# Altium footprint library PcbLib1.PcbLib: 74 footprints (part 1 of 5)
Each footprint in its own frame and in the unit in brackets; x right, y up, seen from the top. Pads: shape width x height; smd on the part's side, far side on the other; paste and mask are expansions set on the pad; w line width, h text height; cw(c..) or ccw(c..) is an arc to the next point about the centre after c.
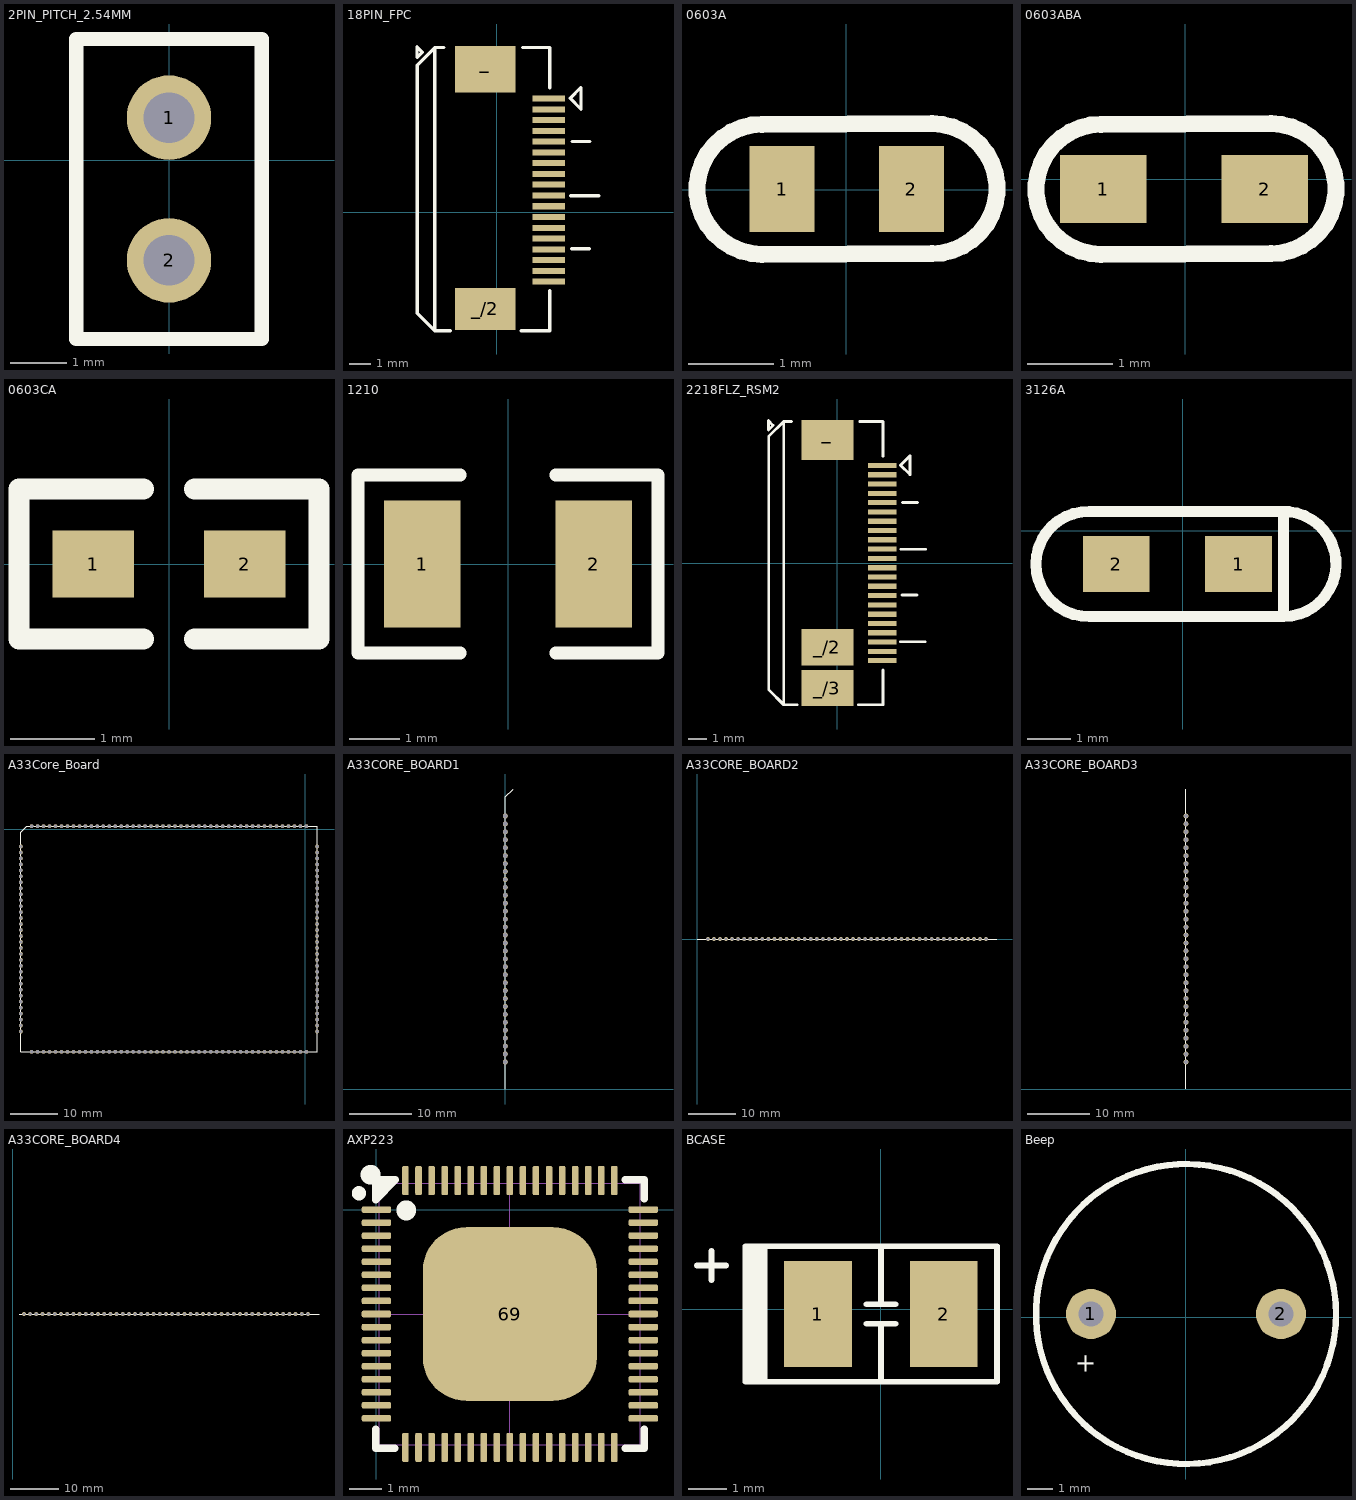
[diagram p0: the footprints below, top view; thin cyan lines are the x and y axes]

## 2PIN_PITCH_2.54MM [mm]
pads (2):
  round 1.5 hole 0.9: 1(0,0.762) 2(0,-1.778)
Top Overlay:
  lines w0.254: -1.651,-3.175 -1.651,2.159 1.651,2.159 1.651,-3.175 -1.651,-3.175

## 18PIN_FPC [mil]
pads (20):
  rect 60x11 smd: 1(95,207.49) 2(95,187.81) 3(95,168.12) 4(95,148.44) 5(95,128.75) 6(95,109.07) 7(95,89.38) 8(95,69.7) 9(95,50.01) 10(95,30.33) 11(95,10.64) 12(95,-9.04) 13(95,-28.73) 14(95,-48.41) 15(95,-68.1) 16(95,-87.78) 17(95,-107.47) 18(95,-127.15)
  rect 110x85 smd: _(-21,261.5)
  rect 110x77 smd: _/2(-21,-177.14)
Top Overlay:
  lines w6: -97,300.86 -113.4,300.86 ; -85,-217 -113.4,-217 ; 44.64,-217 96.6,-217 96.6,-143.32 ; 47.36,300.86 96.6,300.86 96.6,227.18 ; 135,30 187,30 ; 137,-67 169,-67 ; 138,129 170,129 ; -113.4,-217 -145.4,-185 -145.4,268.86 -113.4,300.86 ; -113.4,-217 -113.4,300.86 ; -146,282.5 -136,292.5 -146,302.5 -146,282.5 ; 134,208 154,228 154,188 134,208
Mechanical 18:
  text "J1" at -149,363.5 h25

## 0603A [mil]
pads (2):
  rect 30x40 smd: 1(-29.69,0.44) 2(30.31,0.44)
Top Overlay:
  lines w7.87: -38.94,-29.84 cw(c-38.94,0.3) -38.94,30.44 39.8,30.72 cw(c39.8,0.58) 39.8,-29.56 -38.94,-29.84

## 0603ABA [mm]
pads (2):
  rect 1.016x0.8 smd: 1(-0.962,-0.116) 2(0.938,-0.116)
Top Overlay:
  lines w0.2: -0.989,-0.885 cw(c-0.989,-0.119) -0.989,0.646 1.011,0.653 cw(c1.011,-0.112) 1.011,-0.878 -0.989,-0.885

## 0603CA [mm]
pads (2):
  rect 0.965x0.8 smd: 1(-0.9,0) 2(0.9,0)
Top Overlay:
  lines w0.254: -0.305,-0.889 -1.778,-0.889 -1.778,0.889 -0.305,0.889 ; 0.305,-0.889 1.778,-0.889 1.778,0.889 0.305,0.889

## 1210 [mil]
pads (2):
  rect 60x100 smd: 1(-67.5,0) 2(67.5,0)
Top Overlay:
  lines w10: -37.5,-70 -118,-70 -118,70 -37.5,70 ; 37.5,-70 118,-70 118,70 37.5,70

## 2218FLZ_RSM2 [mil]
pads (25):
  rect 60x11 smd: 1(95,207.49) 2(95,187.81) 3(95,168.12) 4(95,148.44) 5(95,128.75) 6(95,109.07) 7(95,89.38) 8(95,69.7) 9(95,50.01) 10(95,30.33) 11(95,10.64) 12(95,-9.04) 13(95,-28.73) 14(95,-48.41) 15(95,-68.1) 16(95,-87.78) 17(95,-107.47) 18(95,-127.15) 19(95,-146.84) 20(95,-166.52) 21(95,-186.21) 22(95,-205.89)
  rect 110x85 smd: _(-21,261.5)
  rect 110x77 smd: _/2(-21,-177.14) _/3(-21,-263.88)
Top Overlay:
  lines w6: -97,300.86 -113.4,300.86 ; -85,-299.14 -113.4,-299.14 ; 44.64,-299.14 96.6,-299.14 96.6,-225.46 ; 47.36,300.86 96.6,300.86 96.6,227.18 ; 134,-166 186,-166 ; 135,30 187,30 ; 137,-67 169,-67 ; 138,129 170,129 ; -113.4,-299.14 -145.4,-267.14 -145.4,268.86 -113.4,300.86 ; -113.4,-299.14 -113.4,300.86 ; -146,282.5 -136,292.5 -146,302.5 -146,282.5 ; 134,208 154,228 154,188 134,208
Mechanical 18:
  text "J1" at -149,363.5 h25

## 3126A [mil]
pads (2):
  rect 60x50 smd: 1(50.16,-29.77) 2(-59.84,-29.77)
Top Overlay:
  lines w10: -83.7,-77.02 cw(c-84.69,-29.77) -83.61,17.47 ; -83.66,-77.01 90.51,-77.02 ; -83.66,17.47 89.53,17.47 90.51,15.51 90.51,-77.02 ; 88.29,17.42 cw(c90.51,-29.77) 90.51,-77.02

## A33Core_Board [mm]
pads (158):
  round 0.8 / inner round 0.8 / far side rect 1.9x0.8 hole 0.7: 1(-60.456,-3.696) 2(-60.456,-4.966) 3(-60.456,-6.236) 4(-60.456,-7.506) 5(-60.456,-8.776) 6(-60.456,-10.046) 7(-60.456,-11.316) 8(-60.456,-12.586) 9(-60.456,-13.856) 10(-60.456,-15.126) 11(-60.456,-16.396) 12(-60.456,-17.666) 13(-60.456,-18.936) 14(-60.456,-20.206) 15(-60.456,-21.476) 16(-60.456,-22.746) 17(-60.456,-24.016) 18(-60.456,-25.286) 19(-60.456,-26.556) 20(-60.456,-27.826) 21(-60.456,-29.096) 22(-60.456,-30.366) 23(-60.456,-31.636) 24(-60.456,-32.906) 25(-60.456,-34.176) 26(-60.456,-35.446) 27(-60.456,-36.716) 28(-60.456,-37.986) 29(-60.456,-39.256) 30(-60.456,-40.526) 31(-60.456,-41.796) 32(-60.456,-43.066) 80(2.544,-43.066) 81(2.544,-41.796) 82(2.544,-40.526) 83(2.544,-39.256) 84(2.544,-37.986) 85(2.544,-36.716) 86(2.544,-35.446) 87(2.544,-34.176) 88(2.544,-32.906) 89(2.544,-31.636) 90(2.544,-30.366) 91(2.544,-29.096) 92(2.544,-27.826) 93(2.544,-26.556) 94(2.544,-25.286) 95(2.544,-24.016) 96(2.544,-22.746) 97(2.544,-21.476) 98(2.544,-20.206) 99(2.544,-18.936) 100(2.544,-17.666) 101(2.544,-16.396) 102(2.544,-15.126) 103(2.544,-13.856) 104(2.544,-12.586) 105(2.544,-11.316) 106(2.544,-10.046) 107(2.544,-8.776) 108(2.544,-7.506) 109(2.544,-6.236) 110(2.544,-4.966) 111(2.544,-3.696)
  round 0.8 / inner round 0.8 / far side rect 0.8x1.9 hole 0.7: 33(-58.166,-47.381) 34(-56.896,-47.381) 35(-55.626,-47.381) 36(-54.356,-47.381) 37(-53.086,-47.381) 38(-51.816,-47.381) 39(-50.546,-47.381) 40(-49.276,-47.381) 41(-48.006,-47.381) 42(-46.736,-47.381) 43(-45.466,-47.381) 44(-44.196,-47.381) 45(-42.926,-47.381) 46(-41.656,-47.381) 47(-40.386,-47.381) 48(-39.116,-47.381) 49(-37.846,-47.381) 50(-36.576,-47.381) 51(-35.306,-47.381) 52(-34.036,-47.381) 53(-32.766,-47.381) 54(-31.496,-47.381) 55(-30.226,-47.381) 56(-28.956,-47.381) 57(-27.686,-47.381) 58(-26.416,-47.381) 59(-25.146,-47.381) 60(-23.876,-47.381) 61(-22.606,-47.381) 62(-21.336,-47.381) 63(-20.066,-47.381) 64(-18.796,-47.381) 65(-17.526,-47.381) 66(-16.256,-47.381) 67(-14.986,-47.381) 68(-13.716,-47.381) 69(-12.446,-47.381) 70(-11.176,-47.381) 71(-9.906,-47.381) 72(-8.636,-47.381) 73(-7.366,-47.381) 74(-6.096,-47.381) 75(-4.826,-47.381) 76(-3.556,-47.381) 77(-2.286,-47.381) 78(-1.016,-47.381) 79(0.254,-47.381) 112(0.254,0.619) 113(-1.016,0.619) 114(-2.286,0.619) 115(-3.556,0.619) 116(-4.826,0.619) 117(-6.096,0.619) 118(-7.366,0.619) 119(-8.636,0.619) 120(-9.906,0.619) 121(-11.176,0.619) 122(-12.446,0.619) 123(-13.716,0.619) 124(-14.986,0.619) 125(-16.256,0.619) 126(-17.526,0.619) 127(-18.796,0.619) 128(-20.066,0.619) 129(-21.336,0.619) 130(-22.606,0.619) 131(-23.876,0.619) 132(-25.146,0.619) 133(-26.416,0.619) 134(-27.686,0.619) 135(-28.956,0.619) 136(-30.226,0.619) 137(-31.496,0.619) 138(-32.766,0.619) 139(-34.036,0.619) 140(-35.306,0.619) 141(-36.576,0.619) 142(-37.846,0.619) 143(-39.116,0.619) 144(-40.386,0.619) 145(-41.656,0.619) 146(-42.926,0.619) 147(-44.196,0.619) 148(-45.466,0.619) 149(-46.736,0.619) 150(-48.006,0.619) 151(-49.276,0.619) 152(-50.546,0.619) 153(-51.816,0.619) 154(-53.086,0.619) 155(-54.356,0.619) 156(-55.626,0.619) 157(-56.896,0.619) 158(-58.166,0.619)
Top Overlay:
  lines w0.127: -60.456,-0.637 -60.456,-47.385 -60.452,-47.381 2.54,-47.381 2.54,0.619 -58.948,0.619 -59.192,0.619 -60.447,-0.637

## A33CORE_BOARD1 [mm]
pads (32):
  round 0.8 / inner round 0.8 / far side rect 1.9x0.8 hole 0.7: 1(0,43.689) 2(0,42.419) 3(0,41.149) 4(0,39.879) 5(0,38.609) 6(0,37.339) 7(0,36.069) 8(0,34.799) 9(0,33.529) 10(0,32.259) 11(0,30.989) 12(0,29.719) 13(0,28.449) 14(0,27.179) 15(0,25.909) 16(0,24.639) 17(0,23.369) 18(0,22.099) 19(0,20.829) 20(0,19.559) 21(0,18.289) 22(0,17.019) 23(0,15.749) 24(0,14.479) 25(0,13.209) 26(0,11.939) 27(0,10.669) 28(0,9.399) 29(0,8.129) 30(0,6.859) 31(0,5.589) 32(0,4.319)
Top Overlay:
  lines w0.127: 0,46.748 0,0 0.004,0.004 ; 0.009,46.748 1.264,48.004

## A33CORE_BOARD2 [mm]
pads (47):
  round 0.8 / inner round 0.8 / far side rect 0.8x1.9 hole 0.7: 33(2.29,0.004) 34(3.56,0.004) 35(4.83,0.004) 36(6.1,0.004) 37(7.37,0.004) 38(8.64,0.004) 39(9.91,0.004) 40(11.18,0.004) 41(12.45,0.004) 42(13.72,0.004) 43(14.99,0.004) 44(16.26,0.004) 45(17.53,0.004) 46(18.8,0.004) 47(20.07,0.004) 48(21.34,0.004) 49(22.61,0.004) 50(23.88,0.004) 51(25.15,0.004) 52(26.42,0.004) 53(27.69,0.004) 54(28.96,0.004) 55(30.23,0.004) 56(31.5,0.004) 57(32.77,0.004) 58(34.04,0.004) 59(35.31,0.004) 60(36.58,0.004) 61(37.85,0.004) 62(39.12,0.004) 63(40.39,0.004) 64(41.66,0.004) 65(42.93,0.004) 66(44.2,0.004) 67(45.47,0.004) 68(46.74,0.004) 69(48.01,0.004) 70(49.28,0.004) 71(50.55,0.004) 72(51.82,0.004) 73(53.09,0.004) 74(54.36,0.004) 75(55.63,0.004) 76(56.9,0.004) 77(58.17,0.004) 78(59.44,0.004) 79(60.71,0.004)
Top Overlay:
  lines w0.127: 0,0 0.004,0.004 62.996,0.004

## A33CORE_BOARD3 [mm]
pads (32):
  round 0.8 / inner round 0.8 / far side rect 1.9x0.8 hole 0.7: 80(63,4.319) 81(63,5.589) 82(63,6.859) 83(63,8.129) 84(63,9.399) 85(63,10.669) 86(63,11.939) 87(63,13.209) 88(63,14.479) 89(63,15.749) 90(63,17.019) 91(63,18.289) 92(63,19.559) 93(63,20.829) 94(63,22.099) 95(63,23.369) 96(63,24.639) 97(63,25.909) 98(63,27.179) 99(63,28.449) 100(63,29.719) 101(63,30.989) 102(63,32.259) 103(63,33.529) 104(63,34.799) 105(63,36.069) 106(63,37.339) 107(63,38.609) 108(63,39.879) 109(63,41.149) 110(63,42.419) 111(63,43.689)
Top Overlay:
  lines w0.127: 62.996,0.004 62.996,48.004

## A33CORE_BOARD4 [mm]
pads (47):
  round 0.8 / inner round 0.8 / far side rect 0.8x1.9 hole 0.7: 112(60.71,48.004) 113(59.44,48.004) 114(58.17,48.004) 115(56.9,48.004) 116(55.63,48.004) 117(54.36,48.004) 118(53.09,48.004) 119(51.82,48.004) 120(50.55,48.004) 121(49.28,48.004) 122(48.01,48.004) 123(46.74,48.004) 124(45.47,48.004) 125(44.2,48.004) 126(42.93,48.004) 127(41.66,48.004) 128(40.39,48.004) 129(39.12,48.004) 130(37.85,48.004) 131(36.58,48.004) 132(35.31,48.004) 133(34.04,48.004) 134(32.77,48.004) 135(31.5,48.004) 136(30.23,48.004) 137(28.96,48.004) 138(27.69,48.004) 139(26.42,48.004) 140(25.15,48.004) 141(23.88,48.004) 142(22.61,48.004) 143(21.34,48.004) 144(20.07,48.004) 145(18.8,48.004) 146(17.53,48.004) 147(16.26,48.004) 148(14.99,48.004) 149(13.72,48.004) 150(12.45,48.004) 151(11.18,48.004) 152(9.91,48.004) 153(8.64,48.004) 154(7.37,48.004) 155(6.1,48.004) 156(4.83,48.004) 157(3.56,48.004) 158(2.29,48.004)
Top Overlay:
  lines w0.127: 1.264,48.004 1.508,48.004 62.996,48.004

## AXP223 [mm]
pads (69):
  rrect50% 0.9x0.2 smd: 1(0,0) 2(0,-0.4) 3(0,-0.8) 4(0,-1.2) 5(0,-1.6) 6(0,-2) 7(0,-2.4) 8(0,-2.8) 9(0,-3.2) 10(0,-3.6) 11(0,-4) 12(0,-4.4) 13(0,-4.8) 14(0,-5.2) 15(0,-5.6) 16(0,-6) 17(0,-6.4) 35(8.179,-6.4) 36(8.179,-6) 37(8.179,-5.6) 38(8.179,-5.2) 39(8.179,-4.8) 40(8.179,-4.4) 41(8.179,-4) 42(8.179,-3.6) 43(8.179,-3.2) 44(8.179,-2.8) 45(8.179,-2.4) 46(8.179,-2) 47(8.179,-1.6) 48(8.179,-1.2) 49(8.179,-0.8) 50(8.179,-0.4) 51(8.179,0)
  rrect50% 0.2x0.9 smd: 18(0.889,-7.289) 19(1.289,-7.289) 20(1.689,-7.289) 21(2.089,-7.289) 22(2.489,-7.289) 23(2.889,-7.289) 24(3.289,-7.289) 25(3.689,-7.289) 26(4.089,-7.289) 27(4.489,-7.289) 28(4.889,-7.289) 29(5.289,-7.289) 30(5.689,-7.289) 31(6.089,-7.289) 32(6.489,-7.289) 33(6.889,-7.289) 34(7.289,-7.289) 52(7.289,0.889) 53(6.889,0.889) 54(6.489,0.889) 55(6.089,0.889) 56(5.689,0.889) 57(5.289,0.889) 58(4.889,0.889) 59(4.489,0.889) 60(4.089,0.889) 61(3.689,0.889) 62(3.289,0.889) 63(2.889,0.889) 64(2.489,0.889) 65(2.089,0.889) 66(1.689,0.889) 67(1.289,0.889) 68(0.889,0.889)
  rrect50% 5.334x5.334 smd: 69(4.089,-3.2)
Top Overlay:
  circle w0.559: c0.914,-0.025 r0.025
  circle w0.559: c-0.178,1.067 r0.025
  circle w0.381: c-0.54,0.5 r0.025
  lines w0.025: -0.229,1.042 -0.178,1.093
  lines w0.229: -0.025,-6.731 -0.025,-7.315 0.559,-7.315 ; -0.025,0.585 0.305,0.915 ; 7.62,-7.315 8.204,-7.315 8.204,-6.731 ; 7.62,0.915 8.204,0.915 8.204,0.331 ; -0.025,0.305 -0.025,0.915 0.584,0.915 -0.025,0.305
Mechanical 15:
  lines w0.025: 0,-3.2 8.179,-3.2 ; 3.589,-3.2 4.589,-3.2 ; 4.089,-7.289 4.089,0.889 ; 4.089,-3.7 4.089,-2.7 ; 0.089,-7.2 0.089,0.8 8.089,0.8 8.089,-7.2 0.089,-7.2

## BCASE [mil]
pads (2):
  rect 70x110 smd: 1(-65,-5) 2(65,-5)
Top Overlay:
  lines w6: -190,45 -160,45 ; -175,30 -175,60 ; -135,-75 -135,65 ; -130,-75 -130,65 ; -125,-75 -125,65 ; -120,-75 -120,65 ; -15,-15 15,-15 ; -15,5 15,5 ; 0,-75 0,-15 ; 0,5 0,65 ; -140,-75 -140,65 120,65 120,-75 -140,-75

## Beep [mm]
pads (2):
  round 2 hole 1: 1(-3.8,0.127) 2(3.8,0.127)
Top Overlay:
  circle w0.254: c0,0.127 r6
  text "+" at -3.69,-1.417 h0.76